# EAGLE library part SN74HC509A (library magneticimagertile)
SN74HC509A 8-bit Binary Counter, 2-6V operation
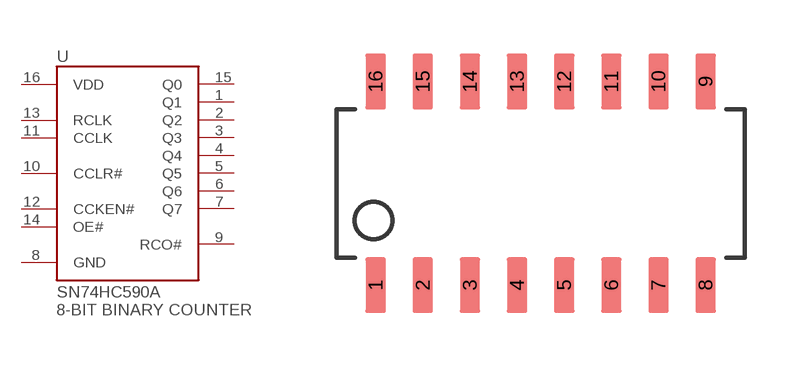
[diagram p3: symbol with the pads of SO16; footprint SO16]

Designator prefix -

## SN74HC509A  [SO16]
1  Q1
2  Q2
3  Q3
4  Q4
5  Q5
6  Q6
7  Q7
8  GND
9  RCO#
10  CCLR#
11  CCLK
12  CCKEN#
13  RCLK
14  OE#
15  Q0
16  VDD

## Footprint SO16 (pad centres in mm)
smd 0.55 x 1.5: 1 -4.445,-2.74; 2 -3.175,-2.74; 3 -1.905,-2.74; 4 -0.635,-2.74; 5 0.635,-2.74; 6 1.905,-2.74; 7 3.175,-2.74; 8 4.445,-2.74; 9 4.445,2.74; 10 3.175,2.74; 11 1.905,2.74; 12 0.635,2.74; 13 -0.635,2.74; 14 -1.905,2.74; 15 -3.175,2.74; 16 -4.445,2.74